# Altium schematic symbol library SN74AUP1G125DPWR.SchLib: 1 symbol
Pins are listed as number, name and electrical type; pins without a type are passive.

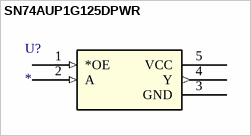
[diagram p0: symbol SN74AUP1G125DPWR]

## SN74AUP1G125DPWR
designator U?
No Description Available; Mfr_Name: Texas Instruments; RefDes: RefDes; Type: Type
footprint X2SON_TEX
pins: 1 *OE (in), 2 A (in), 3 GND (power), 4 Y (out), 5 VCC (power)